# Altium footprint library BBB_ADC7_inputs_with_mux_Ver1 Rev1.PcbLib: 16 footprints
Each footprint in its own frame and in the unit in brackets; x right, y up, seen from the top. Pads: shape width x height; smd on the part's side, far side on the other; paste and mask are expansions set on the pad; w line width, h text height; cw(c..) or ccw(c..) is an arc to the next point about the centre after c.
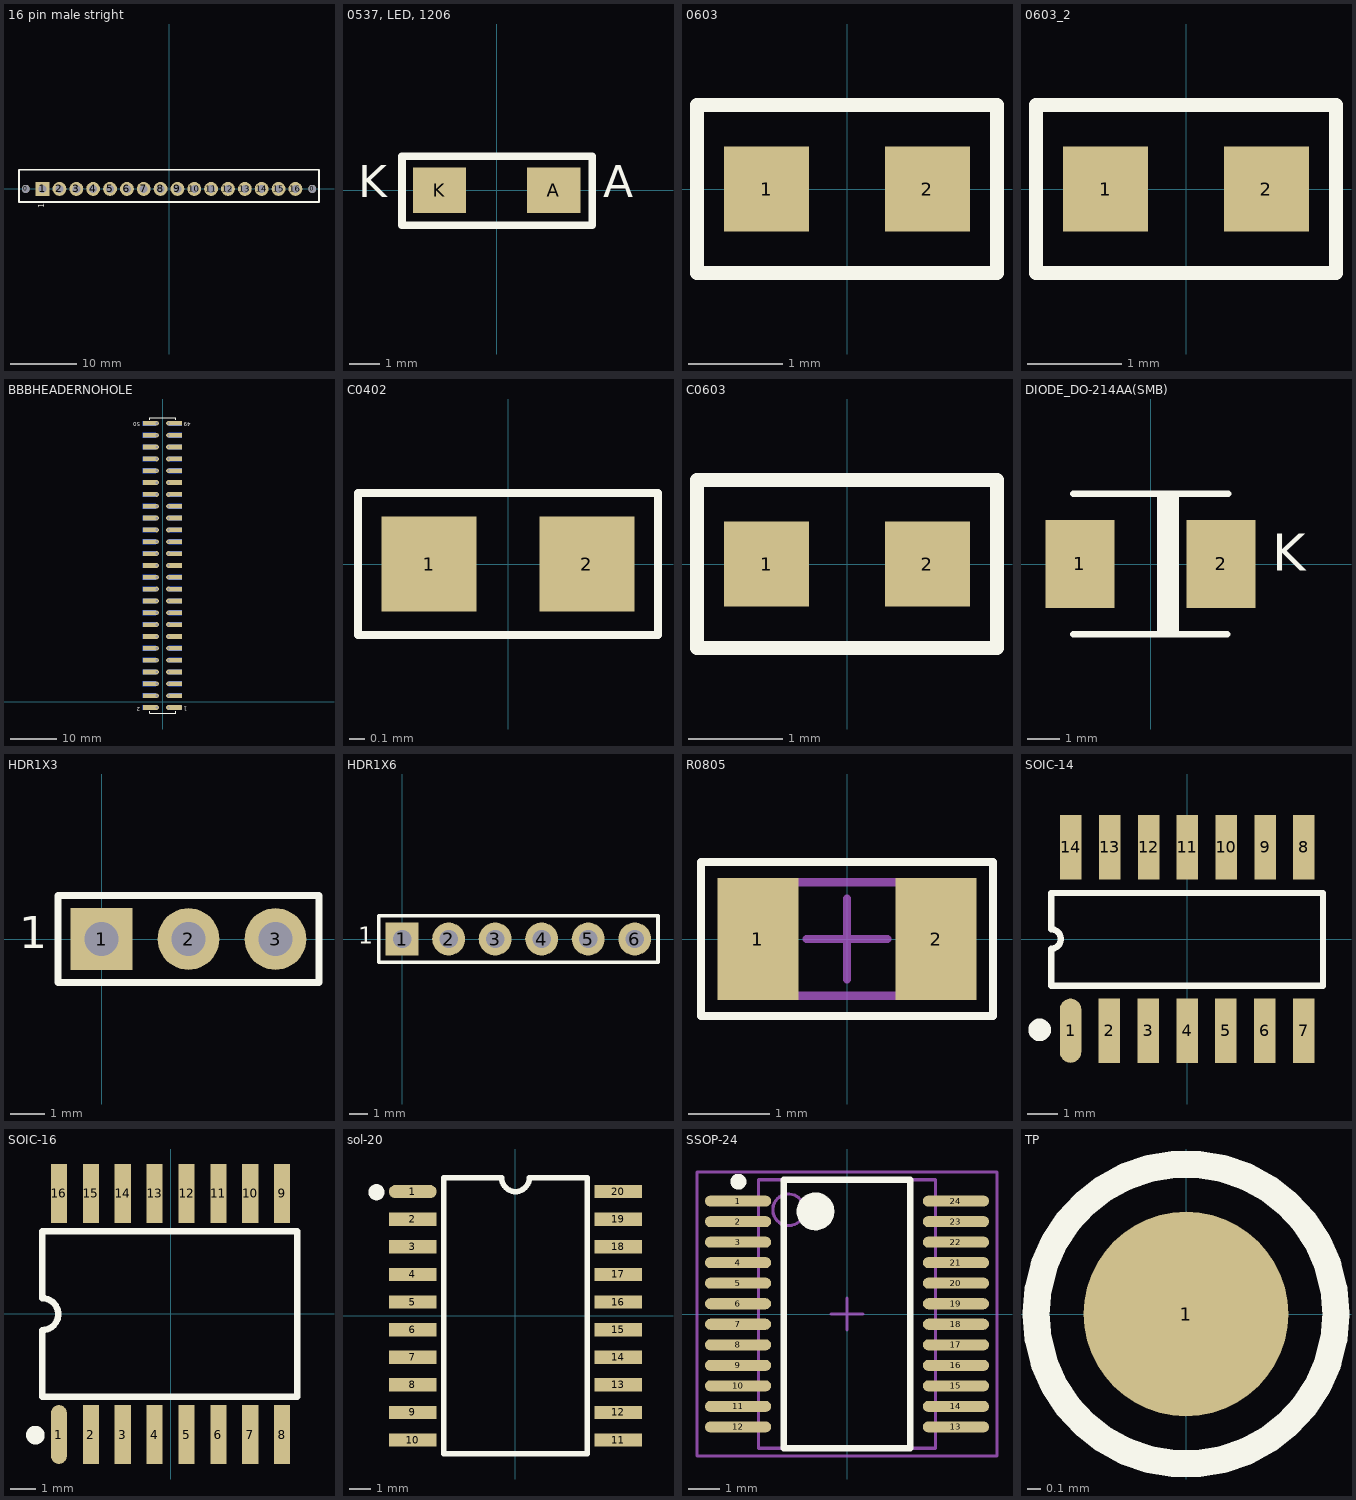
[diagram p0: the footprints below, top view; thin cyan lines are the x and y axes]

## 16 pin male stright [mm]
height 0.55
pads (18):
  round 1.2 hole 1.2 unplated: 0(-21.59,0) 0(21.59,0)
  rect 2.1x2.1 hole 1.2: 1(-19.05,0)
  round 2.1 hole 1.2: 2(-16.51,0) 3(-13.97,0) 4(-11.43,0) 5(-8.89,0) 6(-6.35,0) 7(-3.81,0) 8(-1.27,0) 9(1.27,0) 10(3.81,0) 11(6.35,0) 12(8.89,0) 13(11.43,0) 14(13.97,0) 15(16.51,0) 16(19.05,0)
Top Overlay:
  lines w0.254: -22.61,-1.97 22.61,-1.97 22.61,2.88 -22.61,2.88 -22.61,-1.963
  text "1" at -18.503,-2.911 h1.5
3D body "1821533_00.stp": height 7.1, standoff -2, extent -22.58,-1.963 22.65,2.887

## 0537, LED, 1206 [mm]
height 0.55
pads (2):
  rect 1.75x1.5 smd: A(1.875,0) K(-1.875,0)
Top Overlay:
  lines w0.25: -3.11,-1.14 -3.11,1.12 3.14,1.12 3.14,-1.14 -3.11,-1.14
  text "K" at -4.556,-0.576 h1.8
  text "A" at 3.505,-0.567 h1.8
3D body: height 1.52, standoff 0, extent -1.6,-0.8 1.6,0.8

## 0603 [mm]
height 0.5
pads (2):
  rect 0.9x0.9 smd: 1(-0.85,0) 2(0.85,0)
Top Overlay:
  lines w0.152: -1.587,-0.889 -1.587,0.889 1.587,0.889 1.587,-0.889 -1.587,-0.889
3D body "0603 Res.step": height 0.56, standoff 0, extent -0.85,-0.4 0.85,0.4

## 0603_2 [mm]
pads (2):
  rect 0.9x0.9 smd: 1(-0.85,0) 2(0.85,0)
Top Overlay:
  lines w0.152: -1.587,-0.889 1.587,-0.889 1.587,0.889 -1.587,0.889 -1.587,-0.889
3D body: height 0.55, standoff 0, extent -0.85,-0.45 0.85,0.45

## BBBHEADERNOHOLE [mm]
pads (100):
  rrect50% 2.8x1 smd far side: 1(2.77,-1.27)
  rrect50% 2.8x1 smd: 1(2.8,-1.27)
  rect 2.8x1 smd far side: 2(-2.83,-1.27) 3(2.77,1.27) 4(-2.83,1.27) 5(2.77,3.81) 6(-2.83,3.81) 7(2.77,6.35) 8(-2.83,6.35) 9(2.77,8.89) 10(-2.83,8.89) 11(2.77,11.43) 12(-2.83,11.43) 13(2.77,13.97) 14(-2.83,13.97) 15(2.77,16.51) 16(-2.83,16.51) 17(2.77,19.05) 18(-2.83,19.05) 19(2.77,21.59) 20(-2.83,21.59) 21(2.77,24.13) 22(-2.83,24.13) 23(2.77,26.67) 24(-2.83,26.67) 25(2.77,29.21) 26(-2.83,29.21) 27(2.77,31.75) 28(-2.83,31.75) 29(2.77,34.29) 30(-2.83,34.29) 31(2.77,36.83) 32(-2.83,36.83) 33(2.77,39.37) 34(-2.83,39.37) 35(2.77,41.91) 36(-2.83,41.91) 37(2.77,44.45) 38(-2.83,44.45) 39(2.77,46.99) 40(-2.83,46.99) 41(2.77,49.53) 42(-2.83,49.53) 43(2.77,52.07) 44(-2.83,52.07) 45(2.77,54.61) 46(-2.83,54.61) 47(2.77,57.15) 48(-2.83,57.15) 49(2.77,59.69) 50(-2.83,59.69)
  rect 2.8x1 smd: 2(-2.8,-1.27) 3(2.8,1.27) 4(-2.8,1.27) 5(2.8,3.81) 6(-2.8,3.81) 7(2.8,6.35) 8(-2.8,6.35) 9(2.8,8.89) 10(-2.8,8.89) 11(2.8,11.43) 12(-2.8,11.43) 13(2.8,13.97) 14(-2.8,13.97) 15(2.8,16.51) 16(-2.8,16.51) 17(2.8,19.05) 18(-2.8,19.05) 19(2.8,21.59) 20(-2.8,21.59) 21(2.8,24.13) 22(-2.8,24.13) 23(2.8,26.67) 24(-2.8,26.67) 25(2.8,29.21) 26(-2.8,29.21) 27(2.8,31.75) 28(-2.8,31.75) 29(2.8,34.29) 30(-2.8,34.29) 31(2.8,36.83) 32(-2.8,36.83) 33(2.8,39.37) 34(-2.8,39.37) 35(2.8,41.91) 36(-2.8,41.91) 37(2.8,44.45) 38(-2.8,44.45) 39(2.8,46.99) 40(-2.8,46.99) 41(2.8,49.53) 42(-2.8,49.53) 43(2.8,52.07) 44(-2.8,52.07) 45(2.8,54.61) 46(-2.8,54.61) 47(2.8,57.15) 48(-2.8,57.15) 49(2.8,59.69) 50(-2.8,59.69)
via -1.27,-1.27 diameter 1.016 hole 0.508
via 1.27,-1.27 diameter 1.016 hole 0.508
via 1.27,52.07 diameter 1.016 hole 0.508
via -1.27,52.07 diameter 1.016 hole 0.508
via 1.27,54.61 diameter 1.016 hole 0.508
via -1.27,54.61 diameter 1.016 hole 0.508
via 1.27,57.15 diameter 1.016 hole 0.508
via -1.27,57.15 diameter 1.016 hole 0.508
via 1.27,59.69 diameter 1.016 hole 0.508
via -1.27,59.69 diameter 1.016 hole 0.508
via 1.27,41.91 diameter 1.016 hole 0.508
via -1.27,41.91 diameter 1.016 hole 0.508
via 1.27,44.45 diameter 1.016 hole 0.508
via -1.27,44.45 diameter 1.016 hole 0.508
via 1.27,46.99 diameter 1.016 hole 0.508
via -1.27,46.99 diameter 1.016 hole 0.508
via 1.27,49.53 diameter 1.016 hole 0.508
via -1.27,49.53 diameter 1.016 hole 0.508
via 1.27,31.75 diameter 1.016 hole 0.508
via -1.27,31.75 diameter 1.016 hole 0.508
via 1.27,34.29 diameter 1.016 hole 0.508
via -1.27,34.29 diameter 1.016 hole 0.508
via 1.27,36.83 diameter 1.016 hole 0.508
via 1.27,39.37 diameter 1.016 hole 0.508
via 1.27,21.59 diameter 1.016 hole 0.508
via -1.27,21.59 diameter 1.016 hole 0.508
via 1.27,24.13 diameter 1.016 hole 0.508
via -1.27,24.13 diameter 1.016 hole 0.508
via 1.27,26.67 diameter 1.016 hole 0.508
via -1.27,26.67 diameter 1.016 hole 0.508
via 1.27,29.21 diameter 1.016 hole 0.508
via -1.27,29.21 diameter 1.016 hole 0.508
via 1.27,11.43 diameter 1.016 hole 0.508
via -1.27,11.43 diameter 1.016 hole 0.508
via 1.27,13.97 diameter 1.016 hole 0.508
via -1.27,13.97 diameter 1.016 hole 0.508
via 1.27,16.51 diameter 1.016 hole 0.508
via -1.27,16.51 diameter 1.016 hole 0.508
via 1.27,19.05 diameter 1.016 hole 0.508
via -1.27,19.05 diameter 1.016 hole 0.508
via 1.27,1.27 diameter 1.016 hole 0.508
via -1.27,1.27 diameter 1.016 hole 0.508
via 1.27,3.81 diameter 1.016 hole 0.508
via -1.27,3.81 diameter 1.016 hole 0.508
via 1.27,6.35 diameter 1.016 hole 0.508
via -1.27,6.35 diameter 1.016 hole 0.508
via 1.27,8.89 diameter 1.016 hole 0.508
via -1.27,8.89 diameter 1.016 hole 0.508
via -1.27,39.37 diameter 1.016 hole 0.508
via -1.27,36.83 diameter 1.016 hole 0.508
Top Overlay:
  lines w0.254: -2.788,-2.032 -2.788,-2.464 2.8,-2.464 2.8,-2.032 ; -2.788,60.452 -2.788,60.884 2.368,60.884 2.806,60.884 2.8,60.878 2.8,60.452
  text "50" at -4.824,60.203 h1.5
  text "49" at 6.098,60.203 h1.5
  text "2" at -4.744,-0.852 h1.5
  text "1" at 5.312,-0.827 h1.5

## C0402 [mm] "C0402"
pads (2):
  rect 0.6x0.6 smd: 1(-0.5,0) 2(0.5,0)
Top Overlay:
  lines w0.051: -0.95,-0.45 -0.95,0.45 0.95,0.45 0.95,-0.45 -0.95,-0.45
3D body "0402 Cap.step": height 0.51, standoff 0, extent -0.508,-0.254 0.508,0.254

## C0603 [mm]
height 0.5
pads (2):
  rect 0.9x0.9 smd: 1(-0.85,0) 2(0.85,0)
Top Overlay:
  lines w0.152: -1.587,-0.889 1.587,-0.889 1.587,0.889 -1.587,0.889 -1.587,-0.889
3D body "0603 Cap.step": height 0.3, standoff 0, extent -0.8,-0.4 0.8,0.4

## DIODE_DO-214AA(SMB) [mm]
height 6.86
pads (2):
  rect 2.159x2.743 smd: 1(-2.21,0) 2(2.21,0)
Top Overlay:
  rectangle: 0.2,-2.2 0.888,2.2
  lines w0.2: -2.411,-2.2 2.405,-2.2 ; -2.411,2.2 2.425,2.2
  text "K" at 3.8,-0.6 h2
3D body "DIODE-SMB.step": height 2.45, standoff 0.03, extent -2.75,-1.95 2.75,1.95

## HDR1X3 [mm]
height 0.55
pads (3):
  rect 1.8x1.8 hole 1: 1(0,0)
  round 1.8 hole 1: 2(2.54,0) 3(5.08,0)
Top Overlay:
  lines w0.2: -1.27,-1.27 6.35,-1.27 6.35,1.27 -1.27,1.27 -1.27,-1.27
  text "1" at -2.409,-0.577 h1.6
3D body "HDR1X3 MALE.stp": height 9.07, standoff -2.47, extent -1.245,-1.22 6.375,1.32

## HDR1X6 [mm] "Connector; Header; 6 Position"
height 0.5
pads (6):
  rect 1.8x1.8 hole 1: 1(0,0)
  round 1.8 hole 1: 2(2.54,0) 3(5.08,0) 4(7.62,0) 5(10.16,0) 6(12.7,0)
Top Overlay:
  lines w0.2: -1.27,-1.27 13.97,-1.27 13.97,1.27 -1.27,1.27 -1.27,-1.27
  text "1" at -2.409,-0.577 h1.6
3D body "HDR1X6 MALE.stp": height 9.07, standoff -2.47, extent -1.27,-1.27 13.97,1.27

## R0805 [mm]
height 4.7
pads (2):
  rect 1x1.5 smd: 1(-1.1,0) 2(1.1,0)
Top Overlay:
  lines w0.1: -1.8,-0.95 1.8,-0.95 1.8,0.95 -1.8,0.95 -1.8,-0.95
Mechanical 13:
  lines w0.1: -1.075,-0.7 1.075,-0.7 1.075,0.7 -1.075,0.7 -1.075,-0.7
Mechanical 15:
  lines w0.1: -0.5,0 0.5,0 ; 0,-0.5 0,0.5
3D body "0805 Res.step": height 0.76, standoff 0, extent -1.15,-0.675 1.15,0.675

## SOIC-14 [mm]
height 0.55
pads (14):
  oval 0.7x2.1 smd: 1(-3.815,-3)
  rect 0.7x2.1 smd: 2(-2.545,-3) 3(-1.275,-3) 4(-0.005,-3) 5(1.265,-3) 6(2.535,-3) 7(3.805,-3) 8(3.815,3) 9(2.545,3) 10(1.275,3) 11(0.005,3) 12(-1.265,3) 13(-2.535,3) 14(-3.815,3)
Top Overlay:
  circle w0.5: c-4.826,-2.972 r0.12
  lines w0.203: -4.45,-1.528 -4.45,-0.318 ccw(c-4.45,0) -4.45,0.318 -4.45,1.507 4.44,1.507 4.44,-1.528 -4.45,-1.528
3D body "SO-14.step": height 1.88, standoff 0.11, extent -4.35,-3.068 4.35,3.068

## SOIC-16 [mm]
height 0.55
pads (16):
  oval 0.64x2.35 smd: 1(-4.445,-4.8)
  rect 0.64x2.35 smd: 2(-3.175,-4.8) 3(-1.905,-4.8) 4(-0.635,-4.8) 5(0.635,-4.8) 6(1.905,-4.8) 7(3.175,-4.8) 8(4.445,-4.8) 9(4.445,4.8) 10(3.175,4.8) 11(1.905,4.8) 12(0.635,4.8) 13(-0.635,4.8) 14(-1.905,4.8) 15(-3.175,4.8) 16(-4.445,4.8)
Top Overlay:
  circle w0.5: c-5.386,-4.824 r0.12
  lines w0.254: -5.11,-3.3 -5.11,-0.641 ccw(c-5.11,-0.006) -5.11,0.629 -5.11,3.3 5.05,3.3 5.05,-3.3 -5.11,-3.3
3D body "SO-16W.STEP": height 2.48, standoff 0, extent -5.165,-5.155 5.165,5.155

## sol-20 [mm]
height 0.55
pads (20):
  oval 2.2x0.61 smd: 1(-4.726,5.715)
  rect 2.2x0.61 smd: 2(-4.726,4.445) 3(-4.726,3.175) 4(-4.726,1.905) 5(-4.726,0.635) 6(-4.726,-0.635) 7(-4.726,-1.905) 8(-4.726,-3.175) 9(-4.726,-4.445) 10(-4.726,-5.715) 11(4.726,-5.715) 12(4.726,-4.445) 13(4.726,-3.175) 14(4.726,-1.905) 15(4.726,-0.635) 16(4.726,0.635) 17(4.726,1.905) 18(4.726,3.175) 19(4.726,4.445) 20(4.726,5.715)
Top Overlay:
  circle w0.5: c-6.394,5.687 r0.12
  lines w0.254: -3.302,-6.35 3.302,-6.35 3.302,6.35 0.635,6.35 cw(c0,6.35) -0.635,6.35 -3.302,6.35 -3.302,-6.35

## SSOP-24 [mm]
height 0.5
pads (24):
  oval 2.1x0.35 smd: 1(-3.45,3.575) 2(-3.45,2.925) 3(-3.45,2.275) 4(-3.45,1.625) 5(-3.45,0.975) 6(-3.45,0.325) 7(-3.45,-0.325) 8(-3.45,-0.975) 9(-3.45,-1.625) 10(-3.45,-2.275) 11(-3.45,-2.925) 12(-3.45,-3.575) 13(3.45,-3.575) 14(3.45,-2.925) 15(3.45,-2.275) 16(3.45,-1.625) 17(3.45,-0.975) 18(3.45,-0.325) 19(3.45,0.325) 20(3.45,0.975) 21(3.45,1.625) 22(3.45,2.275) 23(3.45,2.925) 24(3.45,3.575)
Top Overlay:
  circle w0.25: c-3.437,4.19 r0.125
  circle w0.6: c-1,3.25 r0.3
  lines w0.2: -2,-4.25 -2,4.25 2,4.25 2,-4.25 -2,-4.25
Mechanical 13:
  circle w0.1: c-1.85,3.3 r0.5
  lines w0.1: -2.8,-4.25 -2.8,4.25 2.8,4.25 2.8,-4.25 -2.8,-4.25
Mechanical 15:
  lines w0.1: -0.5,0 0.5,0 ; 0,-0.5 0,0.5 ; -4.75,-4.5 -4.75,4.5 4.75,4.5 4.75,-4.5 -4.75,-4.5
3D body: height 2, standoff 0.05, extent -2.8,-4.25 2.8,4.25

## TP [mm]
pads (1):
  round 1.5 smd paste-2: 1(0,0)
Top Overlay:
  circle w0.2: c0,0 r1.1